# Altium schematic symbol library Vref_ADR435_1.Schlib: 1 symbol
Pins are listed as number, name and electrical type; pins without a type are passive.

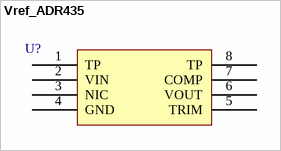
[diagram p0: symbol Vref_ADR435]

## Vref_ADR435
designator U?, comment ADR435 - 5V  (value not drawn)
footprint MSOP-8 (TSOP, 8-Leads, Body 3.00x3.00mm, Pitch 0.65mm, IPC Medium Density)
pins: 1 TP, 2 VIN, 3 NIC, 4 GND, 5 TRIM, 6 VOUT, 7 COMP, 8 TP